# Altium schematic symbol library ICGTRMM2.SchLib: 1 symbol
Pins are listed as number, name and electrical type; pins without a type are passive.

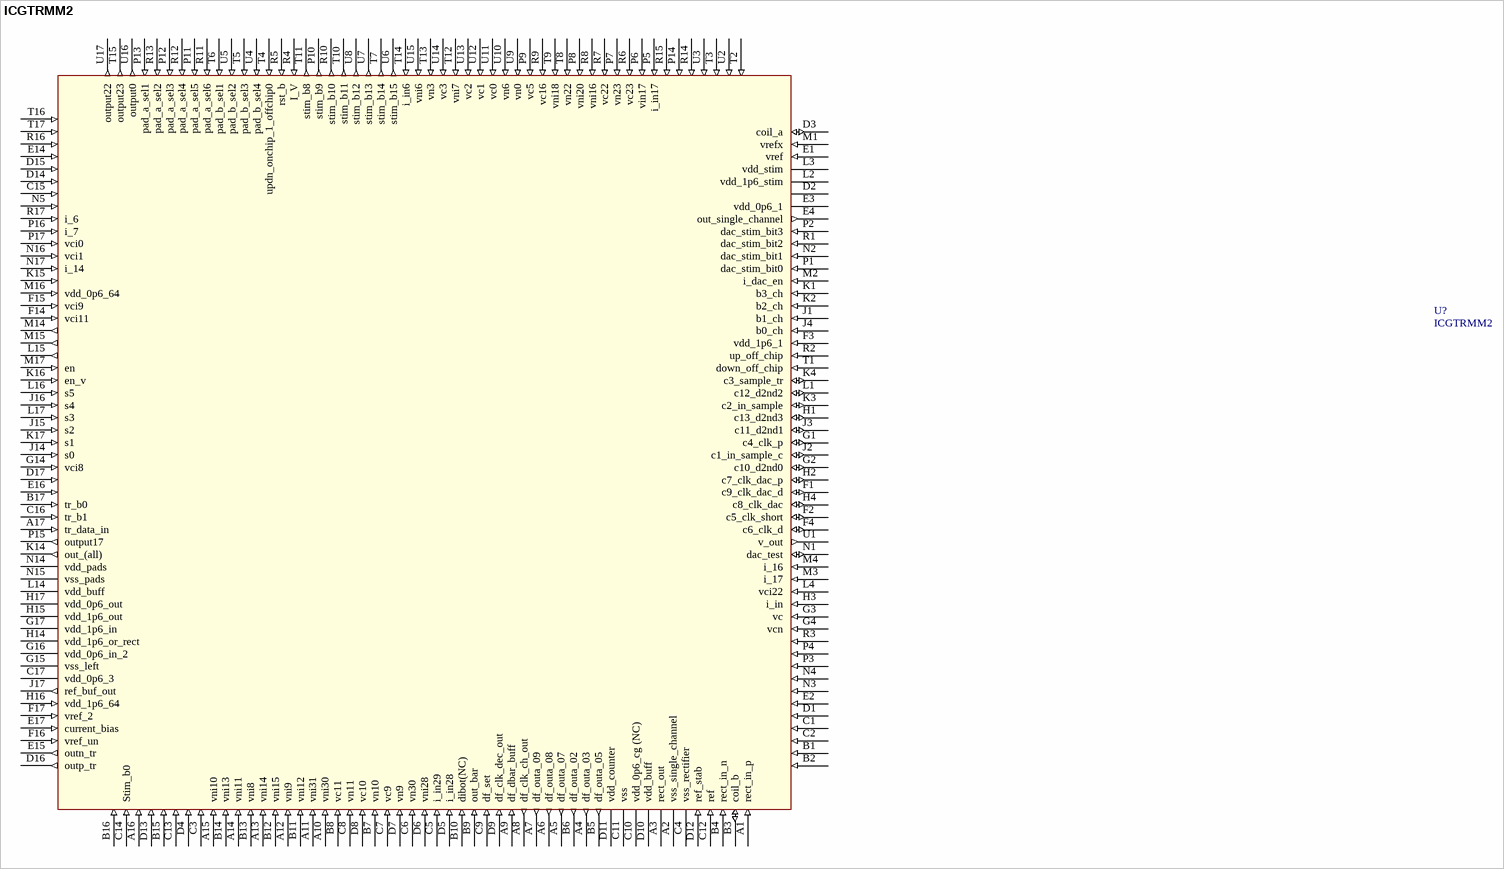
[diagram p0: symbol ICGTRMM2]

## ICGTRMM2
designator U?
footprint PGA208x17
pins: A1 rect_in_p (in), A2 vss_single_channel (power), A3 rect_out (power), A4 df_outa_03 (out), A5 df_outa_07 (out), A6 df_outa_08 (out), A7 df_outa_09 (out), A8 df_clk_ch_out (out), A9 df_dbar_buff (in), A10 vni30 (in), A11 vni31 (in), A12 vni9 (in), A13 vni14 (in), A14 vni11 (in), A15 vni10 (in), A16 (in), A17 tr_data_in (in), B1 (in), B2 (in), B3 coil_b (io), B4 rect_in_n (in), B5 df_outa_05 (out), B6 df_outa_02 (out), B7 vn10 (in), B8 vc11 (in), B9 out_bar (in), B10 dibot(NC) (in), B11 vni12 (in), B12 vni15 (in), B13 vni8 (in), B14 vni13 (in), B15 (in), B16 (in), B17 tr_b0 (in), C1 (in), C2 (in), C3 (in), C4 vss_rectifier (power), C5 i_in29 (in), C6 vn30 (in), C7 vc9 (in), C8 vn11 (in), C9 df_set (in), C10 vdd_0p6_cg (NC) (power), C11 vss (power), C12 ref (in), C13 (in), C14 Stim_b0 (in), C15 (in), C16 tr_b1 (in), C17 vdd_0p6_3 (power), D1 (in), D2 (power), D3 coil_a (io), D4 (in), D5 i_in28 (in), D6 vni28 (in), D7 vn9 (in), D8 vc10 (in), D9 df_clk_dec_out (in), D10 vdd_buff (power), D11 vdd_counter (power), D12 ref_stab (in), D13 (in), D14 (in), D15 (in), D16 outp_tr (out), D17 (in), E1 vref (in), E2 (in), E3 vdd_0p6_1 (power), E4 out_single_channel (out), E14 (in), E15 outn_tr (out), E16 (in), E17 current_bias (in), F1 c9_clk_dac_d (io), F2 c5_clk_short (io), F3 vdd_1p6_1 (in), F4 c6_clk_d (io), F14 vci11 (in), F15 vci9 (in), F16 vref_un (in), F17 vref_2 (in), G1 c4_clk_p (io), G2 c10_d2nd0 (io), G3 vc (in), G4 vcn (in), G14 vci8 (in), G15 vss_left (power), G16 vdd_0p6_in_2 (power), G17 vdd_1p6_in (power), H1 c13_d2nd3 (io), H2 c7_clk_dac_p (io), H3 i_in (in), H4 c8_clk_dac (io), H14 vdd_1p6_or_rect (power), H15 vdd_1p6_out (power), H16 vdd_1p6_64 (in), H17 vdd_0p6_out (power), J1 b1_ch (in), J2 c1_in_sample_c (io), J3 c11_d2nd1 (io), J4 b0_ch (in), J14 s0 (in), J15 s2 (in), J16 s4 (in), J17 ref_buf_out (out), K1 b3_ch (in), K2 b2_ch (in), K3 c2_in_sample (io), K4 c3_sample_tr (io), K14 out_(all) (out), K15 (in), K16 en_v (in), K17 s1 (in), L1 c12_d2nd2 (io), L2 vdd_1p6_stim (power), L3 vdd_stim (power), L4 vci22 (in), L14 vdd_buff (power), L15 (out), L16 s5 (in), L17 s3 (in), M1 vrefx (in), M2 i_dac_en (in), M3 i_17 (in), M4 i_16 (in), M14 (out), M15 (out), M16 vdd_0p6_64 (in), M17 en (in), N1 dac_test (io), N2 dac_stim_bit1 (in), N3 (in), N4 (in), N5 (in), N14 vdd_pads (power), N15 vss_pads (power), N16 vci1 (in), N17 i_14 (in), P1 dac_stim_bit0 (in), P2 dac_stim_bit3 (in), P3 (in), P4 (in), P5 i_in17 (in), P6 vin17 (in), P7 vn23 (in), P8 vni20 (in), P9 vc5 (in), P10 stim_b9 (out), P11 pad_a_sel5 (in), P12 pad_a_sel3 (in), P13 pad_a_sel1 (in), P14 (in), P15 output17 (out), P16 i_7 (in), P17 vci0 (in), R1 dac_stim_bit2 (in), R2 up_off_chip (in), R3 (in), R4 I_V (in), R5 rst_b (in), R6 vc23 (in), R7 vc22 (in), R8 vni16 (in), R9 vc16 (in), R10 stim_b10 (out), R11 pad_a_sel6 (in), R12 pad_a_sel4 (in), R13 pad_a_sel2 (in), R14 (in), R15 (in), R16 (in), R17 i_6 (in), T1 down_off_chip (in), T2 (in), T3 (in), T4 updn_onchip_1_offchip0 (in), T5 pad_b_sel3 (in), T6 pad_b_sel1 (in), T7 stim_b14 (out), T8 vn22 (in), T9 vni18 (in), T10 stim_b11 (out), T11 stim_b8 (out), T12 vni7 (in), T13 vn3 (in), T14 i_in6 (in), T15 output23 (out), T16 (in), T17 (in), U1 v_out (out), U2 (in), U3 (in), U4 pad_b_sel4 (in), U5 pad_b_sel2 (in), U6 stim_b15 (out), U7 stim_b13 (out), U8 stim_b12 (out), U9 vn0 (in), U10 vn6 (in), U11 vc0 (in), U12 vc1 (in), U13 vc2 (in), U14 vc3 (in), U15 vni6 (in), U16 output0 (out), U17 output22 (out)